# EAGLE library part TS3A5223RSWR (library edrtech_lib)
0.5 Dual SPDT Bidirectional Analog Switch Source: Datasheet <http://www.ti.com/lit/gpn/ts3a5223>
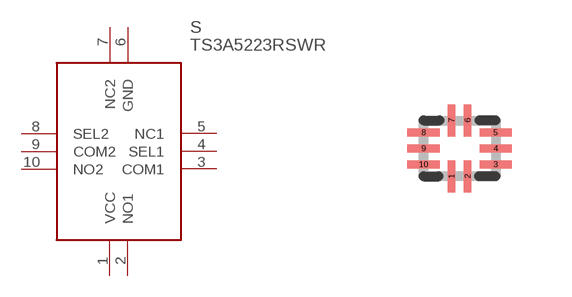
[diagram p51: symbol with the pads of RSW(RPUQFNN10); footprint RSW(RPUQFNN10)]

Designator prefix S

## TS3A5223RSWR (ARROW_PART_NUMBER: TS3A5223RSWR; ARROW_PRICE-STOCK: https://www.arrow.com/en/products/ts3a5223rswr/texas-instruments?region=nac; DESCRIPTION: 0.5 Dual SPDT Bidirectional Analog Switch; HEIGHT: mm; MANUFACTURER_NAME: Texas Instruments; MANUFACTURER_PART_NUMBER: TS3A5223RSWR; MOUSER_PART_NUMBER: 595-TS3A5223RSWR; MOUSER_PRICE-STOCK: https://www.mouser.co.uk/ProductDetail/Texas-Instruments/TS3A5223RSWR?qs=nEyf2%252Bd9RBmZJQRiNjZi8g%3D%3D)  [RSW(RPUQFNN10)]
1  VCC  pwr
2  NO1
3  COM1
4  SEL1
5  NC1
6  GND  pwr
7  NC2
8  SEL2
9  COM2
10  NO2

## Footprint RSW(RPUQFNN10) (pad centres in mm)
RSW(RPUQFNN10)
smd 0.2 x 0.8: 1 -0.2,-0.7; 2 0.2,-0.7; 6 0.2,0.7; 7 -0.2,0.7
smd 0.8 x 0.2: 3 0.9,-0.4; 4 0.9,0; 5 0.9,0.4; 8 -0.9,0.4; 9 -0.9,0; 10 -0.9,-0.4